# EAGLE library part 54202-S0803LF (library SamacSys_Parts)
Headers & Wire Housings 6P UNSHRD VERT HDR .38 MICROMETER AU Source: Datasheet <https://componentsearchengine.com/Datasheets/1/54202-S0803LF.pdf>
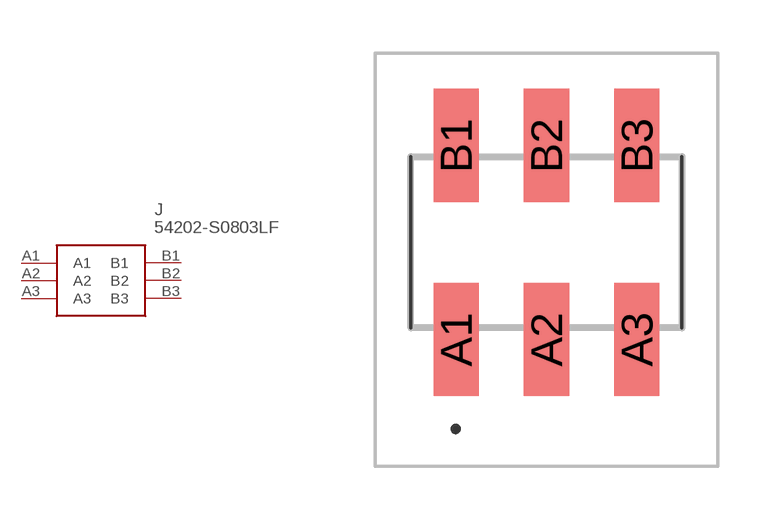
[diagram p16: symbol with the pads of 54202S0803LF; footprint 54202S0803LF]

Designator prefix J

## 54202-S0803LF (ARROW_PART_NUMBER: 54202-S0803LF; ARROW_PRICE-STOCK: https://www.arrow.com/en/products/54202-s0803lf/amphenol-fci; DESCRIPTION: Headers & Wire Housings 6P UNSHRD VERT HDR .38 MICROMETER AU; HEIGHT: 9.85mm; MANUFACTURER_NAME: Amphenol; MANUFACTURER_PART_NUMBER: 54202-S0803LF; MOUSER_PART_NUMBER: 649-54202-S0803LF; MOUSER_PRICE-STOCK: https://www.mouser.co.uk/ProductDetail/Amphenol-FCI/54202-S0803LF/?qs=u4%252BeTlRBLCQc0dY8vPNecA%3D%3D)  [54202S0803LF]
A1  A1
A2  A2
A3  A3
B1  B1
B2  B2
B3  B3

## Footprint 54202S0803LF (pad centres in mm)
54202-S0803LF-2
smd 1.27 x 3.18: A1 -2.54,-2.73; A2 0,-2.73; A3 2.54,-2.73; B1 -2.54,2.73; B2 0,2.73; B3 2.54,2.73